# EAGLE library part 691318400008 (library Wurth_Elektronik_Electromechanic_Terminal_Blocks_Connectors_rev16b)
WR-TBL Serie 3184 - 7.62 mm Close Vertical PCB Header with Flanges, 8 Pins=>Code : Con_TBL_Pluggable_7.62_PCB_V_691318400008 <http://katalog.we-online.de/media/images/eican/Con_TBL_Pluggable_7.62_PCB_V_6913184000xx_pf2.jpg> Details see: http://katalog.we-online.de/en/em/691_318_400_0xx Created 2014-06-25, Karrer Zheng 2014 (C) Würth Elektronik
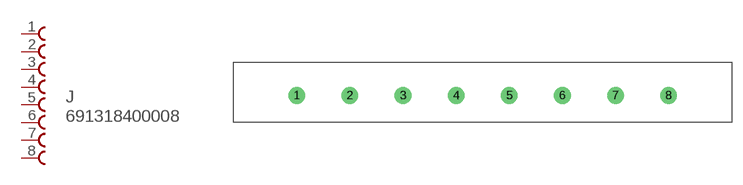
[diagram p178: symbol with the pads of 691318400008; footprint 691318400008]

Designator prefix J

## 691318400008  [691318400008]
1  1  pas
2  2  pas
3  3  pas
4  4  pas
5  5  pas
6  6  pas
7  7  pas
8  8  pas

## Footprint 691318400008 (pad centres in mm)
WR-TBL Serie 3184 - 7.62 mm Close Vertical PCB Header with Flanges, 8 Pins
drill 1.6: 1 -30.48,0; 2 -22.86,0; 3 -15.24,0; 4 -7.62,0; 5 0,0; 6 7.62,0; 7 15.24,0; 8 22.86,0